# Altium schematic symbol library LM1117.Schlib: 1 symbol
Pins are listed as number, name and electrical type; pins without a type are passive.

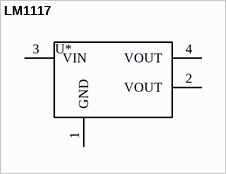
[diagram p0: symbol LM1117]

## LM1117
designator U*
Fixed 15V 3.3V 800mA SOT-223 Low Dropout Regulators(LDO) RoHS; ComponentLink1Description: LCSC - LM1117MPX-3-3; ComponentLink1URL: https://lcsc.com/product-detail/Low-Dropout-Regulators-LDO_Texas-Instruments-LM1117MPX-3-3-NOPB_C9662.html; LCSC Part #: C9662
footprint SOT-223 (TO-261)
pins: 1 GND (power) "ground pin", 2 VOUT (power) "Regulated Output Voltage.", 3 VIN (power) "power in", 4 VOUT (power) "Regulated Output Voltage."